# EAGLE library part MAX4599ELT (library MAX4599ELT - Analog SPDT Switch)
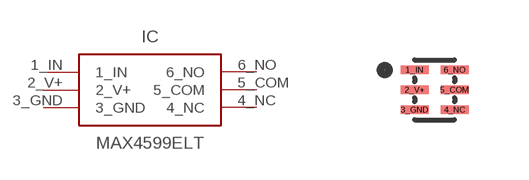
[diagram p0: symbol with the pads of UDFN6; footprint UDFN6]

Designator prefix IC

## MAX4599ELT  [UDFN6]
1_IN  1_IN  in
2_V+  2_V+  pwr
3_GND  3_GND  pwr
4_NC  4_NC
5_COM  5_COM
6_NO  6_NO

## Footprint UDFN6 (pad centres in mm)
smd 0.7 x 0.22: 1_IN -0.5,0.5; 2_V+ -0.5,0; 3_GND -0.5,-0.5; 4_NC 0.5,-0.5; 5_COM 0.5,0; 6_NO 0.5,0.5